# Altium schematic symbol library DAC1220E_2K5.SchLib: 1 symbol
Pins are listed as number, name and electrical type; pins without a type are passive.

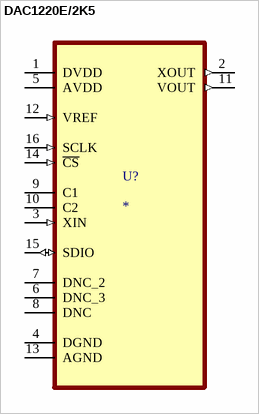
[diagram p0: symbol DAC1220E/2K5]

## DAC1220E/2K5
designator U?
Digital-to-Analog Converter; MP: DAC1220E/2K5; Package: None; Price: None; Value: *; Availability: Unavailable
footprint SOP63P600X175-16N
pins: 1 DVDD (power), 2 XOUT (out), 3 XIN (in), 4 DGND, 5 AVDD (power), 6 DNC_3, 7 DNC_2, 8 DNC, 9 C1, 10 C2, 11 VOUT (out), 12 VREF (in), 13 AGND, 14 ~{CS} (in), 15 SDIO (io), 16 SCLK (in)